# Altium footprint library TPC.PcbLib: 15 footprints
Each footprint in its own frame and in the unit in brackets; x right, y up, seen from the top. Pads: shape width x height; smd on the part's side, far side on the other; paste and mask are expansions set on the pad; w line width, h text height; cw(c..) or ccw(c..) is an arc to the next point about the centre after c.
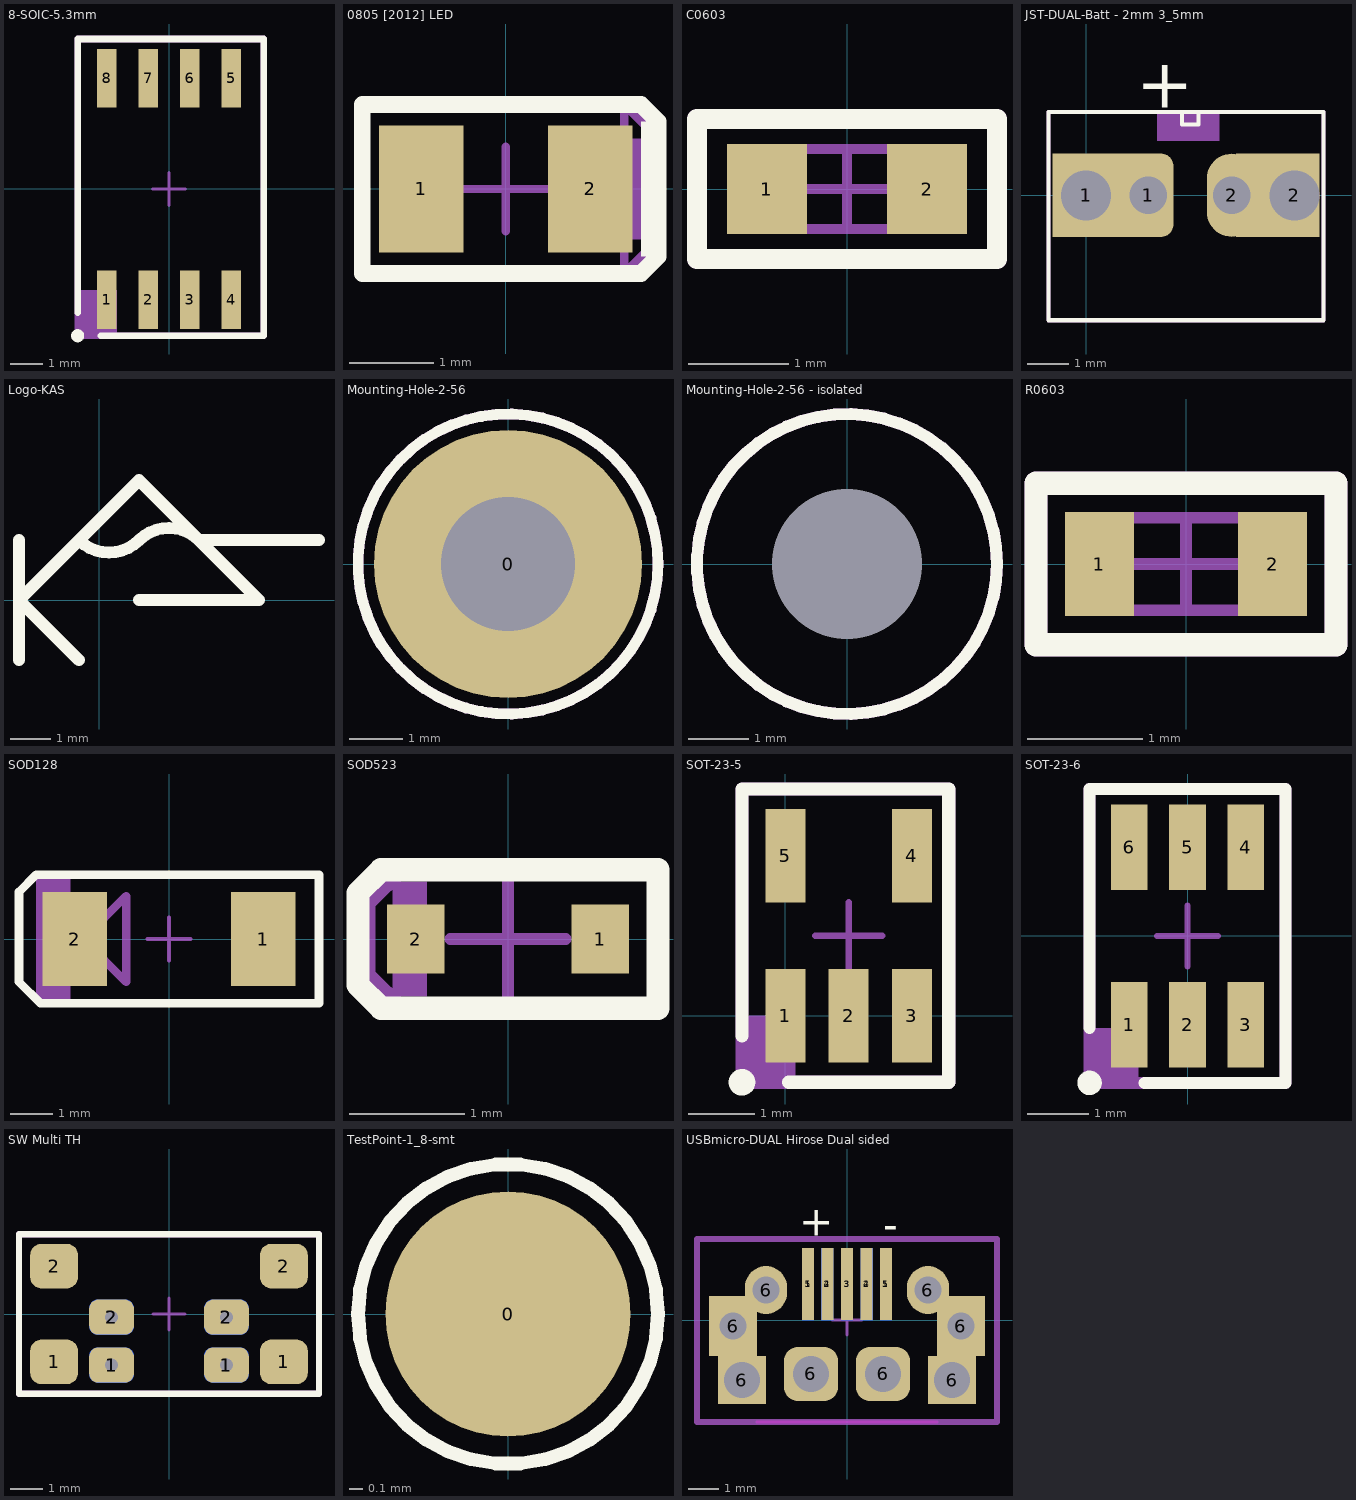
[diagram p0: the footprints below, top view; thin cyan lines are the x and y axes]

## 8-SOIC-5.3mm [mm] "5.3mm x 5.3mm"
height 2.2
pads (8):
  rect 0.6x1.8 smd mask+0.07: 1(-1.905,-3.4) 2(-0.635,-3.4) 3(0.635,-3.4) 4(1.905,-3.4) 5(1.905,3.4) 6(0.635,3.4) 7(-0.635,3.4) 8(-1.905,3.4)
Top Overlay:
  circle w0.2: c-2.8,-4.5 r0.1
  lines w0.2: -2.8,-3.8 -2.8,4.6 2.9,4.6 2.9,-4.5 -2.1,-4.5
Assembly Text Top:
  text ".Designator" at -2,-0.6 h0.9
Assembly Top:
  rectangle: -2.8,-4.5 -1.6,-3.1
  lines w0.2: -2.8,-4.5 -2.8,4.6 2.9,4.6 2.9,-4.5 -2.8,-4.5
Courtyard Top:
  lines w0.1: -0.5,0 0.5,0 ; 0,-0.5 0,0.5
3D body: height 2.16, standoff 0, extent -2.64,-3.99 2.6,3.99

## 0805 [2012] LED [mm] "0805 [2012]"
height 1
pads (2):
  rect 1x1.5 smd: 1(-1,0) 2(1,0)
Top Overlay:
  rectangle: 1.6,-0.8 1.8,0.8
  lines w0.2: -1.7,-1 1.6,-1 1.8,-0.8 1.8,0.8 1.6,1 -1.7,1 -1.7,-1
Assembly Text Top:
  text ".Designator" at -1.2,-0.4 h0.9
Assembly Top:
  rectangle: 1.4,-0.6 1.8,0.6
  lines w0.1: 1.4,-1 1.4,1 ; 1.4,-1 1.4,-1 ; 1.4,-1 -1.7,-1 -1.7,1 1.4,1 ; 1.4,-1 1.8,-0.6 1.8,0.6 1.4,1
Courtyard Top:
  lines w0.1: -0.5,0 0.5,0 ; 0,-0.5 0,0.5
3D body: height 1, standoff 0, extent -1.15,-0.8 1.15,0.8
3D body: height 1.1, standoff 1, extent 0.4,-0.8 0.6,0.8

## C0603 [mm] "Capacitor Body 1.55x0.85mm"
height 1
pads (2):
  rect 0.8x0.9 smd: 1(-0.8,0) 2(0.8,0)
Top Overlay:
  lines w0.2: -1.5,-0.7 -1.5,0.7 1.5,0.7 1.5,-0.7 -1.5,-0.7
Assembly Text Top:
  text ".Designator" at -0.6,-0.3 h0.5
Assembly Top:
  lines w0.2: -1.5,-0.7 -1.5,0.7 1.5,0.7 1.5,-0.7 -1.5,-0.7
Courtyard Top:
  lines w0.1: -0.5,0 0.5,0 ; 0,-0.4 0,0.4 ; -0.8,-0.4 0.8,-0.4 0.8,0.4 -0.8,0.4 -0.8,-0.4
3D body: height 0.8, standoff 0, extent -0.8,-0.4 0.8,0.4

## JST-DUAL-Batt - 2mm 3_5mm [mm] "2mm - Adafruit"
height 6
pads (4):
  rect 2.4x2 hole 1.2 copper offset 0.4,0: 1(0,0)
  rrect50% 1.2x2 hole 0.9: 1(1.5,0)
  oval 1.2x2 hole 0.9: 2(3.5,0)
  rect 2x2 hole 1.2 copper offset -0.4,0: 2(5,0)
Top Overlay:
  lines w0.1: 2.3,2 2.3,1.7 2.7,1.7 2.7,2 ; -0.9,-3 5.7,-3 5.7,2 -0.9,2 -0.9,-3
  text "+" at 1.2,2.1 h1.2
Assembly Text Top:
  text "-" at 4.2,1 h1
  text "+" at 0.1,1 h1
  text ".Designator" at 0.1,-1.7 h0.9
Assembly Top:
  rectangle: 1.7,1.3 3.2,2
  lines w0.1: -0.9,-3 5.7,-3 5.7,2 -0.9,2 -0.9,-3
3D body: height 6, standoff -3.4, extent -0.45,-2.75 5.45,1.75

## Logo-KAS [mm]
Top Overlay:
  lines w0.3: -2,-1.5 -2,1.5 ; -0.5,-1.5 -2,0 ; -0.5,1.5 ccw(c0.25,2.25) 1,1.5 cw(c1.75,0.75) 2.5,1.5 5.5,1.5 ; 1,0 4,0 1,3 -2,0 ; -2,0 -2,0

## Mounting-Hole-2-56 [mm] "5mm-2.5mm Dia-Head-4.3mm Dia-threads-2.2"
height 1.6
pads (1):
  round 5 hole 2.5: 0(0,0)
Top Overlay:
  circle w0.2: c0,0 r2.8
Bottom Overlay:
  circle w0.2: c0,0 r2.8
Assembly Text Top:
  text ".Designator" at -0.8,-0.4 h1
Assembly Top:
  circle w0.2: c0,0 r2.8
Assembly Bottom:
  circle w0.2: c0,0 r2.8
Courtyard Top:
  lines w0.1: -0.5,0 0.5,0 ; 0,-0.5 0,0.5
Courtyard Bottom:
  lines w0.1: -0.5,0 0.5,0 ; 0,-0.5 0,0.5

## Mounting-Hole-2-56 - isolated [mm] "5mm-2.5mm Dia-Head-4.3mm Dia-threads-2.2"
height 1.6
pads (1):
  round 0 hole 2.5 unplated: 0(0,0)
Top Overlay:
  circle w0.2: c0,0 r2.5
Bottom Overlay:
  circle w0.2: c0,0 r2.5
Assembly Text Top:
  text ".Designator" at -0.8,-0.4 h1
Assembly Top:
  circle w0.2: c0,0 r2.5
Assembly Bottom:
  circle w0.2: c0,0 r2.5
Courtyard Top:
  lines w0.1: -0.5,0 0.5,0 ; 0,-0.5 0,0.5
Courtyard Bottom:
  lines w0.1: -0.5,0 0.5,0 ; 0,-0.5 0,0.5

## R0603 [mm] "Chip Resistor, Body 1.55x0.85mm, IPC High Density"
height 1
pads (2):
  rect 0.6x0.9 smd: 1(-0.75,0) 2(0.75,0)
Top Overlay:
  lines w0.2: -1.3,-0.7 -1.3,0.7 1.3,0.7 1.3,-0.7 -1.3,-0.7
Assembly Text Top:
  text ".Designator" at -0.8,-0.4 h0.6
Assembly Top:
  lines w0.2: -1.3,-0.7 -1.3,0.7 1.3,0.7 1.3,-0.7 -1.3,-0.7
Courtyard Top:
  lines w0.1: -0.5,0 0.5,0 ; 0,-0.4 0,0.4 ; -0.8,-0.4 -0.8,0.4 0.8,0.4 0.8,-0.4 -0.8,-0.4
3D body: height 0.45, standoff 0, extent -0.8,-0.4 0.8,0.4

## SOD128 [mm] "Diode"
height 1.5
pads (2):
  rect 1.5x2.2 smd: 1(2.2,0) 2(-2.2,0)
Top Overlay:
  lines w0.2: -3.5,-1 -3.5,1.1 -3.1,1.5 3.5,1.5 3.5,-1.5 -3,-1.5 -3.5,-1
Assembly Text Top:
  text ".Designator" at -0.6,-0.7 h0.9
Assembly Top:
  rectangle: -3.1,-1.5 -2.3,1.5
  lines w0.1: -3.5,-1 -3,-1.5 3.5,-1.5 3.5,1.5 -3.1,1.5 ; -3.5,-1 -3.5,-1 ; -3.5,-1 -3.5,1.1 -3.1,1.5 ; -3.1,1.5 -3.1,1.5
  lines w0.2: -2,-1 -2,1 ; -2,0 -1,1 -1,-1 -2,0
Courtyard Top:
  lines w0.1: -0.5,0 0.5,0 ; 0,-0.5 0,0.5
3D body: height 1.1, standoff 0, extent -2.35,-1.25 2.35,1.25

## SOD523 [mm] "Diode"
height 1
pads (2):
  rect 0.5x0.6 smd: 1(0.8,0) 2(-0.8,0)
Top Overlay:
  lines w0.2: -1.3,-0.4 -1.1,-0.6 1.3,-0.6 1.3,0.6 -1.1,0.6 -1.3,0.4 -1.3,-0.4
Assembly Text Top:
  text ".Designator" at -0.3,-0.2 h0.4
Assembly Top:
  rectangle: -1,-0.5 -0.7,0.5
  lines w0.1: -1.2,-0.3 -1.2,0.3 -0.9,0.6 1.3,0.6 1.3,-0.6 -0.9,-0.6 -1.2,-0.3
Courtyard Top:
  lines w0.1: -0.5,0 0.5,0 ; 0,-0.5 0,0.5
3D body: height 0.7, standoff 0, extent -0.8,-0.4 0.8,0.4

## SOT-23-5 [mm] "SOT-23/SC-74A; 5 Leads; Body 3 x 3.1 mm, inc. leads (LxW max)"
pads (5):
  rect 0.6x1.4 smd: 1(0,0) 2(0.95,0) 3(1.9,0) 4(1.9,2.4) 5(0,2.4)
Top Overlay:
  circle w0.2: c-0.65,-1 r0.1
  lines w0.2: -0.65,-0.3 -0.65,3.4 2.45,3.4 2.45,-1 0.05,-1
Assembly Text Top:
  text ".Designator" at 0.2,0.6 h0.9
Assembly Top:
  rectangle: -0.65,-1 0.15,0
  lines w0.2: -0.65,-1 -0.65,3.4 2.45,3.4 2.45,-1 -0.65,-1
Courtyard Top:
  lines w0.1: 0.45,1.2 1.45,1.2 ; 0.95,0.7 0.95,1.7
3D body: height 1.45, standoff 0, extent -0.5,-0.15 2.4,2.55

## SOT-23-6 [mm] "FDC6301N"
pads (6):
  rect 0.6x1.4 smd paste-0.025 mask+0.07: 1(-0.95,-1.45) 2(0,-1.45) 3(0.95,-1.45) 4(0.95,1.45) 5(0,1.45) 6(-0.95,1.45)
Top Overlay:
  circle w0.2: c-1.6,-2.4 r0.1
  lines w0.2: -1.6,-1.5 -1.6,2.4 1.6,2.4 1.6,-2.4 -0.7,-2.4
Assembly Text Top:
  text ".Designator" at 0.4,-1 h0.9
Assembly Top:
  rectangle: -1.6,-2.4 -0.8,-1.5
  lines w0.2: -1.6,-2.4 1.6,-2.4 1.6,2.4 -1.6,2.4 -1.6,-2.4
Courtyard Top:
  lines w0.1: -0.5,0 0.5,0 ; 0,-0.5 0,0.5
3D body: height 1.1, standoff 0, extent -1.475,-1.375 1.475,1.375

## SW Multi TH [mm] "EVP-AWED2A, TL3305BF160QG"
height 4
pads (12):
  rrect50% 1.5x1.4 smd: 1(-3.6,-1.5) 1(3.6,-1.5) 2(-3.6,1.5) 2(3.6,1.5)
  rrect50% 1.4x1.1 smd far side: 1(-1.8,-1.6) 1(1.8,-1.6) 2(-1.8,-0.1) 2(1.8,-0.1)
  rrect50% 1.4x1.1 smd: 1(-1.8,-1.6) 1(1.8,-1.6) 2(-1.8,-0.1) 2(1.8,-0.1)
via -1.8,-0.1 diameter 0.8 hole 0.4
via -1.8,-1.6 diameter 0.8 hole 0.4
via 1.8,-1.6 diameter 0.8 hole 0.4
via 1.8,-0.1 diameter 0.8 hole 0.4
Top Overlay:
  lines w0.2: -4.7,-2.5 4.7,-2.5 4.7,2.5 -4.7,2.5 -4.7,-2.5
Assembly Text Top:
  text ".Designator" at -2,0 h1
Assembly Top:
  lines w0.2: -4.7,-2.5 -4.7,2.5 4.7,2.5 4.7,-2.5 -4.7,-2.5
Courtyard Top:
  lines w0.1: -0.5,0 0.5,0 ; 0,-0.5 0,0.5
3D body: height 1.35, standoff 0, extent -2.35,-2.9 2.35,0.65
3D body: height 4.9, standoff -0.1, extent -3.75,-2.25 3.75,2.25
3D body: height 1.35, standoff 0, extent -2.35,-2.9 2.35,0.65

## TestPoint-1_8-smt [mm]
pads (1):
  round 1.8 smd paste-0.9: 0(0,0)
Top Overlay:
  circle w0.1: c0,0 r1.1

## USBmicro-DUAL Hirose Dual sided [mm] "micro USB socket - SMT Thru RA and Straight - ZX62D-B-5P8(30) and ZX80-B-5P(30)"
height 2.5
pads (18):
  rect 0.4x2.4 smd: 1(-1.3,1.2) 2(-0.65,1.2) 3(0,1.2) 4(0.65,1.2) 5(1.3,1.2)
  rect 0.4x2.4 smd far side: 1(1.3,1.2) 2(0.65,1.2) 3(0,1.2) 4(-0.65,1.2) 5(-1.3,1.2)
  rect 1.6x2 hole 0.9: 6(-3.8,-0.2) 6(3.8,-0.2)
  rect 1.6x1.6 hole 1.2 paste+0: 6(-3.5,-2)
  oval 1.4x1.6 hole 0.9: 6(-2.7,1) 6(2.7,1)
  rrect50% 1.8x1.8 hole 1.2: 6(-1.2,-1.8) 6(1.2,-1.8)
  rect 1.6x1.6 hole 1.2: 6(3.5,-2)
Top Overlay:
  text "-" at 1.2,2.7 h1
  text "+" at -1.6,2.8 h1
Bottom Overlay:
  text "+" at 1.8,2.8 h0.9
  text "-" at -1,2.9 h0.9
Keep-Out Layer:
  lines w0.1: -3,-3.4 3,-3.4
Assembly Text Top:
  text ".Designator" at -2.4,-1 h1
Assembly Top:
  lines w0.2: -5,-3.4 5,-3.4 5,2.7 -5,2.7 -5,-3.4
Courtyard Top:
  lines w0.1: -0.5,0 0.5,0 ; 0,-0.5 0,0.5
3D body: height 2.73, standoff -0.75, extent -4.047,-4.65 4.047,1.15
3D body: height 7.25, standoff -0.75, extent -4.039,-2.585 4.039,1.415
3D body: height 2.73, standoff -0.75, extent -4.047,-4.65 4.047,1.15
3D body: height 7.25, standoff -0.75, extent -4.04,-2.585 4.039,1.415